# EAGLE library part LM308 (library mb3_integrated circuits)
LM308 Metal can version: http://smallbear-electronics.mybigcommerce.com/ic-ua308hc/
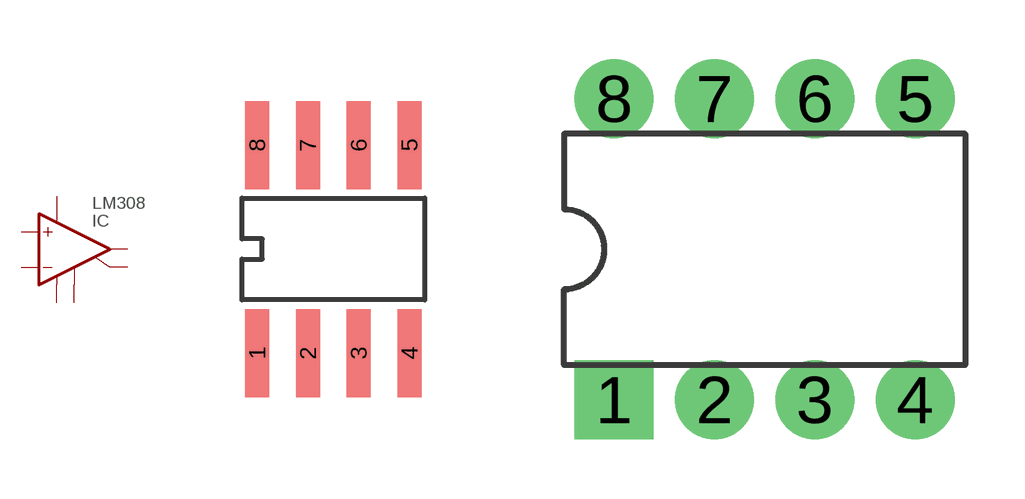
[diagram p17: symbol with the pads of SO08; footprints SO08, DIP08]

Designator prefix IC

## LM308_SMD  [SO08]
1  CMP1  pas
2  -IN  in
3  +IN  in
4  V-  pwr
6  OUT  out
7  V+  pwr
8  CMP2  pas

## LM308_TH  [DIP08]
Pads as for SO08

## Footprint SO08 (pad centres in mm)
Small Outline Package 8 NS Package M08A
smd 0.6 x 2.2: 1 -1.905,-2.6; 2 -0.635,-2.6; 3 0.635,-2.6; 4 1.905,-2.6; 5 1.905,2.6; 6 0.635,2.6; 7 -0.635,2.6; 8 -1.905,2.6

## Footprint DIP08 (pad centres in mm)
Dual In Line Package
drill 1 pad 2 square: 1 -3.81,-3.81
drill 1 pad 2: 2 -1.27,-3.81; 3 1.27,-3.81; 4 3.81,-3.81; 5 3.81,3.81; 6 1.27,3.81; 7 -1.27,3.81; 8 -3.81,3.81